# Altium schematic symbol library Through Hole Resistors.SchLib: 1 symbol
Pins are listed as number, name and electrical type; pins without a type are passive.

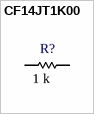
[diagram p0: symbol CF14JT1K00]

## CF14JT1K00
designator R?  Resistance: 1 k  (hidden comment: *)
RES 1K OHM 5% 1/4W AXIAL; Supplier 1: Digi-Key; Supplier Part Number 1: CF14JT1K00CT-ND
footprint STACKPOLE_CF14
pins: 1, 2